# Altium schematic symbol library components.SchLib: 244 symbols (part 3 of 3)
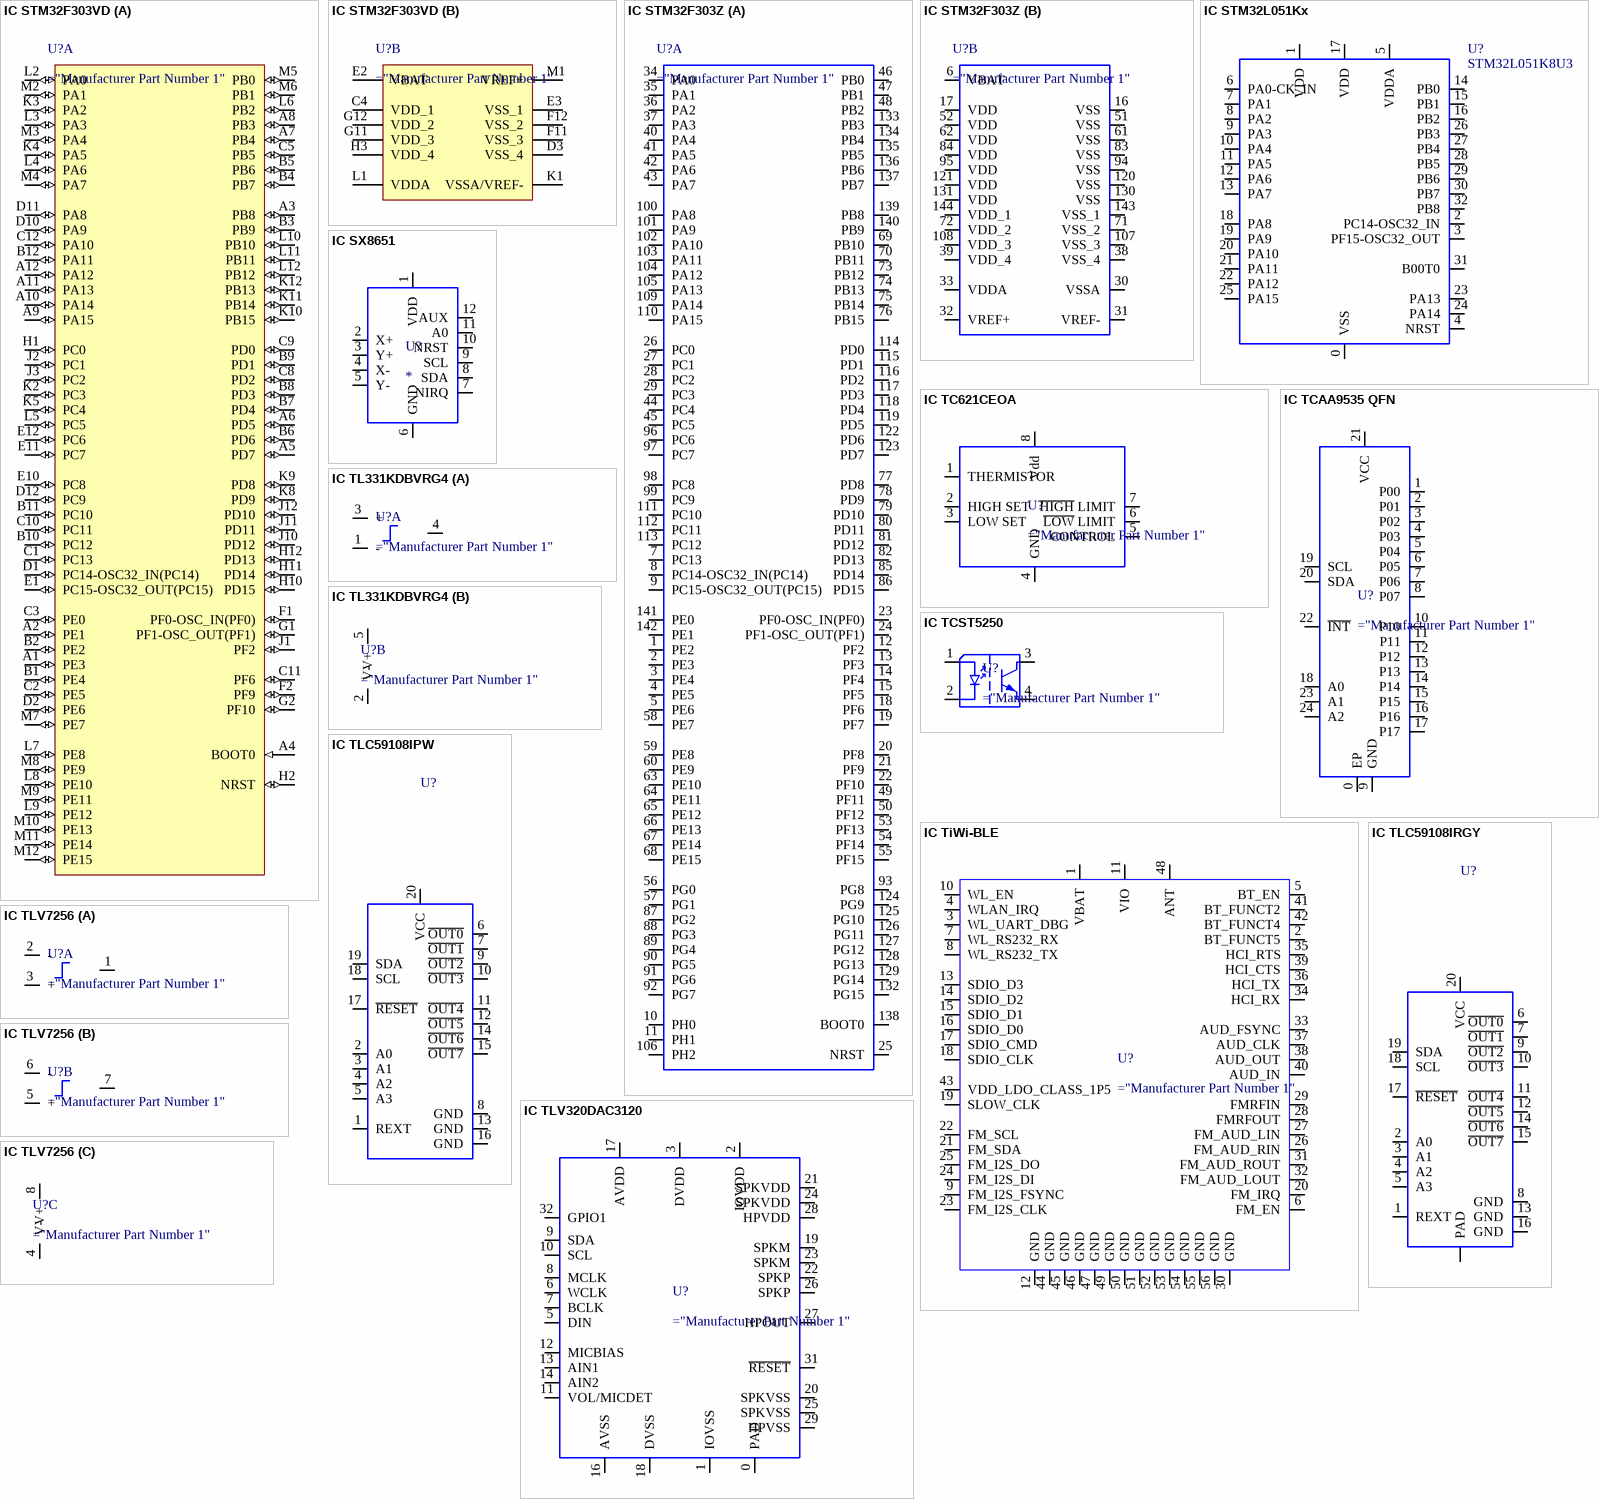
[diagram p27: symbols IC STM32F303VD to IC TLV7256]

## IC STM32F303VD
designator U?
STM32F303VD Microcontroller UFBGA100
part A pins: A1 PE3 (io) "PE3/TRACED0,TIM3_CH2,TSC_G7_IO2,EVENTOUT", A2 PE1 (io) "PE1/USART1_RX,TIM17_CH1,EVENTOUT", A3 PB8 (io) "PB8/I2C1_SCL,CAN_RX,TIM16_CH1,TIM4_CH3,TIM8_CH2,TIM1_BKIN,TSC_SYNC,COMP1_OUT,EVENTOUT", A4 BOOT0 (in) "Boot memory selection", A5 PD7 (io) "PD7/USART2_CK,TIM2_CH3,EVENTOUT", A6 PD5 (io) "PD5/USART2_TX,EVENTOUT", A7 PB4 (io) "PB4/SPI3_MISO,I2S3ext_SD,SPI1_MISO,USART2_RX,TIM3_CH1,TIM16_CH1,TIM17_BKIN,TIM8_CH2N,TSC_G5_IO2,NJTRST,EVENTOUT", A8 PB3 (io) "PB3/SPI3_SCK,I2S3_CK,SPI1_SCK,USART2_TX,TIM2_CH2,TIM3_ETR,TIM4_ETR,TIM8_CH1N,TSC_G5_IO1,JTDO-TRACESWO,EVENTOUT", A9 PA15 (io) "PA15/I2C1_SCL,SPI1_NSS,SPI3_NSS,I2S3_WS,JTDI,USART2_RX,TIM1_BKIN,TIM2_CH1_ETR,TIM8_CH1,EVENTOUT", A10 PA14 (io) "PA14/I2C1_SDA,USART2_TX,TIM8_CH2,TIM1_BKIN,TSC_G4_IO4,SWCLK-JTCK,EVENTOUT", A11 PA13 (io) "PA13/USART3_CTS,TIM4_CH3,TIM16_CH1N,TSC_G4_IO3,IR_OUT,SWDIO-JTMS,EVENTOUT", A12 PA12 (io) "PA12/USART1_RTS,USB_DP,CAN_TX,TIM1_CH2N,TIM1_ETR,TIM4_CH2,TIM16_CH1,COMP2_OUT,EVENTOUT", B1 PE4 (io) "PE4/TRACED1,TIM3_CH3,TSC_G7_IO3,EVENTOUT", B2 PE2 (io) "PE2/TRACECK,TIM3_CH1,TSC_G7_IO1,EVENTOUT", B3 PB9 (io) "PB9/I2C1_SDA,CAN_TX,TIM17_CH1,TIM4_CH4,TIM8_CH3,IR_OUT,COMP2_OUT,EVENTOUT", B4 PB7 (io) "PB7/I2C1_SDA,USART1_RX,TIM3_CH4,TIM4_CH2,TIM17_CH1N,TIM8_BKIN,TSC_G5_IO4,EVENTOUT", B5 PB6 (io) "PB6/I2C1_SCL,USART1_TX,TIM16_CH1N,TIM4_CH1,TIM8_CH1,TSC_G5_IO3,TIM8_ETR,TIM8_BKIN2,EVENTOUT", B6 PD6 (io) "PD6/USART2_RX,TIM2_CH4,EVENTOUT", B7 PD4 (io) "PD4/USART2_RTS,TIM2_CH2,EVENTOUT", B8 PD3 (io) "PD3/USART2_CTS,TIM2_CH1_ETR,EVENTOUT", B9 PD1 (io) "PD1/CAN_TX,TIM8_CH4,TIM8_BKIN2,EVENTOUT", B10 PC12 (io) "PC12/SPI3_MOSI,I2S3_SD,USART3_CK,UART5_TX,TIM8_CH3N,EVENTOUT", B11 PC10 (io) "PC10/SPI3_SCK,I2S3_CK,USART3_TX,UART4_TX,TIM8_CH1N,EVENTOUT", B12 PA11 (io) "PA11/USART1_CTS,USB_DM,CAN_RX,TIM1_CH1N,TIM1_CH4,TIM1_BKIN2,TIM4_CH1,COMP1_OUT,EVENTOUT", C1 PC13 (io) "PC13/TIM1_CH1N/WKUP2,RTC_TAMP1,RTC_TS,RTC_OUT", C2 PE5 (io) "PE5/TRACED2,TIM3_CH4,TSC_G7_IO4,EVENTOUT", C3 PE0 (io) "PE0/USART1_TX,TIM4_ETR,TIM16_CH1,EVENTOUT", C5 PB5 (io) "PB5/SPI3_MOSI,SPI1_MOSI,I2S3_SD,I2C1_SMBA,USART2_CK,TIM16_BKIN,TIM3_CH2,TIM8_CH3N,TIM17_CH1,EVENTOUT", C8 PD2 (io) "PD2/UART5_RX,TIM3_ETR,TIM8_BKIN,EVENTOUT", C9 PD0 (io) "PD0/CAN_RX,EVENTOUT", C10 PC11 (io) "PC11/SPI3_MISO,I2S3ext_SD,USART3_RX,UART4_RX,TIM8_CH2N,EVENTOUT", C11 PF6 (io) "PF6/I2C2_SCL,USART3_RTS,TIM4_CH4,EVENTOUT", C12 PA10 (io) "PA10/I2C2_SDA,USART1_RX,TIM1_CH3,TIM2_CH4,TIM8_BKIN,TIM17_BKIN,TSC_G4_IO2,COMP6_OUT,EVENTOUT", D1 PC14-OSC32_IN(PC14) (io) "PC14-OSC32_IN(PC14)/OSC32_IN", D2 PE6 (io) "PE6/TRACED3,EVENTOUT/WKUP3,RTC_TAMP3", D10 PA9 (io) "PA9/I2C2_SCL,I2S3_MCK,USART1_TX,TIM1_CH2,TIM2_CH3,TIM15_BKIN,TSC_G4_IO1,COMP5_OUT,EVENTOUT", D11 PA8 (io) "PA8/I2C2_SMBA,I2S2_MCK,USART1_CK,TIM1_CH1,TIM4_ETR,MCO,COMP3_OUT,EVENTOUT", D12 PC9 (io) "PC9/TIM8_CH4,TIM8_BKIN2,TIM3_CH4,I2S_CKIN,EVENTOUT", E1 PC15-OSC32_OUT(PC15) (io) "PC15-OSC32_OUT(PC15)/OSC32_OUT", E10 PC8 (io) "PC8/TIM8_CH3,TIM3_CH3,COMP3_OUT,EVENTOUT", E11 PC7 (io) "PC7/I2S3_MCK,TIM8_CH2,TIM3_CH2,COMP5_OUT,EVENTOUT", E12 PC6 (io) "PC6/I2S2_MCK,COMP6_OUT,TIM8_CH1,TIM3_CH1,EVENTOUT", F1 PF0-OSC_IN(PF0) (io) "PF0-OSC_IN(PF0)/TIM1_CH3N,I2C2_SDA/OSC_IN", F2 PF9 (io) "PF9/TIM15_CH1,SPI2_SCK,EVENTOUT", G1 PF1-OSC_OUT(PF1) (io) "PF1-OSC_OUT(PF1)/I2C2_SCL/OSC_OUT", G2 PF10 (io) "PF10/TIM15_CH2,SPI2_SCK,EVENTOUT", H1 PC0 (io) "PC0/EVENTOUT/ADC12_IN6,COMP7_INM", H2 NRST (io) "Device reset input / internal reset output (active low)", H10 PD15 (io) "PD15/SPI2_NSS,TIM4_CH4,TSC_G8_IO4,EVENTOUT/COMP3_INM", H11 PD14 (io) "PD14/TIM4_CH3,TSC_G8_IO3,EVENTOUT/COMP3_INP,ADC34_IN11,OPAMP2_VINP", H12 PD13 (io) "PD13/TIM4_CH2,TSC_G8_IO2,EVENTOUT/ADC34_IN10,COMP5_INM", J1 PF2 (io) "PF2/EVENTOUT/ADC12_IN10", J2 PC1 (io) "PC1/EVENTOUT/ADC12_IN7,COMP7_INP", J3 PC2 (io) "PC2/COMP7_OUT,EVENTOUT/ADC12_IN8", J10 PD12 (io) "PD12/USART3_RTS,TIM4_CH1,TSC_G8_IO1,EVENTOUT/ADC34_IN9,COMP5_INP", J11 PD11 (io) "PD11/USART3_CTS,EVENTOUT/ADC34_IN8,COMP6_INP,OPAMP4_VINP", J12 PD10 (io) "PD10/USART3_CK,EVENTOUT/ADC34_IN7,COMP6_INM", K2 PC3 (io) "PC3/TIM1_BKIN2,EVENTOUT/ADC12_IN9", K3 PA2 (io) "PA2/USART2_TX,TIM2_CH3,TIM15_CH1,TSC_G1_IO3,COMP2_OUT,EVENTOUT/ADC1_IN3,COMP2_INM,OPAMP1_VOUT", K4 PA5 (io) "PA5/SPI1_SCK,TIM2_CH1_ETR,TSC_G2_IO2,EVENTOUT/ADC2_IN2,DAC1_OUT2,OPAMP1_VINP,OPAMP2_VINM,OPAMP3_VINP,COMP1_INM,COMP2_INM,COMP3_INM,COMP4_INM,COMP5_INM,COMP6_INM,COMP7_INM", K5 PC4 (io) "PC4/USART1_TX,EVENTOUT/ADC2_IN5", K8 PD9 (io) "PD9/USART3_RX,EVENTOUT/ADC4_IN13", K9 PD8 (io) "PD8/USART3_TX,EVENTOUT/ADC4_IN12,OPAMP4_VINM", K10 PB15 (io) "PB15/SPI2_MOSI,I2S2_SD,TIM1_CH3N,RTC_REFIN,TIM15_CH1N,TIM15_CH2,EVENTOUT/ADC4_IN5,COMP6_INM", K11 PB14 (io) "PB14/SPI2_MISO,I2S2ext_SD,USART3_RTS,TIM1_CH2N,TIM15_CH1,TSC_G6_IO4,EVENTOUT/COMP3_INP,ADC4_IN4,OPAMP2_VINP", K12 PB13 (io) "PB13/SPI2_SCK,I2S2_CK,USART3_CTS,TIM1_CH1N,TSC_G6_IO3,EVENTOUT/ADC3_IN5,COMP5_INP,OPAMP4_VINP,OPAMP3_VINP", L2 PA0 (io) "PA0/USART2_CTS,TIM2_CH1_ETR,TIM8_BKIN,TIM8_ETR,TSC_G1_IO1,COMP1_OUT,EVENTOUT/ADC1_IN1,COMP1_INM,RTC_TAMP2,WKUP1,COMP7_INP", L3 PA3 (io) "PA3/USART2_RX,TIM2_CH4,TIM15_CH2,TSC_G1_IO4,EVENTOUT/ADC1_IN4,OPAMP1_VINP,COMP2_INP,OPAMP1_VINM", L4 PA6 (io) "PA6/SPI1_MISO,TIM3_CH1,TIM8_BKIN,TIM1_BKIN,TIM16_CH1,COMP1_OUT,TSC_G2_IO3,EVENTOUT/ADC2_IN3,OPAMP2_VOUT", L5 PC5 (io) "PC5/USART1_RX,TSC_G3_IO1,EVENTOUT/ADC2_IN11,OPAMP2_VINM,OPAMP1_VINM", L6 PB2 (io) "PB2/TSC_G3_IO4,EVENTOUT/ADC2_IN12,COMP4_INM,OPAMP3_VINM", L7 PE8 (io) "PE8/TIM1_CH1N,EVENTOUT/COMP4_INM,ADC34_IN6", L8 PE10 (io) "PE10/TIM1_CH2N,EVENTOUT/ADC3_IN14", L9 PE12 (io) "PE12/TIM1_CH3N,EVENTOUT/ADC3_IN16", L10 PB10 (io) "PB10/USART3_TX,TIM2_CH3,TSC_SYNC,EVENTOUT/COMP5_INM,OPAMP4_VINM,OPAMP3_VINM", L11 PB11 (io) "PB11/USART3_RX,TIM2_CH4,TSC_G6_IO1,EVENTOUT/COMP6_INP,OPAMP4_VINP", L12 PB12 (io) "PB12/SPI2_NSS,I2S2_WS,I2C2_SMBA,USART3_CK,TIM1_BKIN,TSC_G6_IO2,EVENTOUT/ADC4_IN3,COMP3_INM,OPAMP4_VOUT", M2 PA1 (io) "PA1/USART2_RTS,TIM2_CH2,TSC_G1_IO2,TIM15_CH1N,RTC_REFIN,EVENTOUT/ADC1_IN2,COMP1_INP,OPAMP1_VINP,OPAMP3_VINP", M3 PA4 (io) "PA4/SPI1_NSS,SPI3_NSS,I2S3_WS,USART2_CK,TSC_G2_IO1,TIM3_CH2,EVENTOUT/ADC2_IN1,DAC1_OUT1,OPAMP4_VINP,COMP1_INM,COMP2_INM,COMP3_INM,COMP4_INM,COMP5_INM,COMP6_INM,COMP7_INM", M4 PA7 (io) "PA7/SPI1_MOSI,TIM3_CH2,TIM17_CH1,TIM1_CH1N,TIM8_CH1N,TSC_G2_IO4,COMP2_OUT,EVENTOUT/ADC2_IN4,COMP2_INP,OPAMP2_VINP,OPAMP1_VINP", M5 PB0 (io) "PB0/TIM3_CH3,TIM1_CH2N,TIM8_CH2N,TSC_G3_IO2,EVENTOUT/ADC3_IN12,COMP4_INP,OPAMP3_VINP,OPAMP2_VINP", M6 PB1 (io) "PB1/TIM3_CH4,TIM1_CH3N,TIM8_CH3N,COMP4_OUT,TSC_G3_IO3,EVENTOUT/ADC3_IN1,OPAMP3_VOUT", M7 PE7 (io) "PE7/TIM1_ETR,EVENTOUT/ADC3_IN13,COMP4_INP", M8 PE9 (io) "PE9/TIM1_CH1,EVENTOUT/ADC3_IN2", M9 PE11 (io) "PE11/TIM1_CH2,EVENTOUT/ADC3_IN15", M10 PE13 (io) "PE13/TIM1_CH3,EVENTOUT/ADC3_IN3", M11 PE14 (io) "PE14/TIM1_CH4,TIM1_BKIN2,EVENTOUT/ADC4_IN1", M12 PE15 (io) "PE15/USART3_RX,TIM1_BKIN,EVENTOUT/ADC4_IN2"
part B pins: C4 VDD_1 (power) "Digital power supply", D3 VSS_4 (power) "Ground", E2 VBAT (power) "Backup power supply", E3 VSS_1 (power) "Ground", F11 VSS_3 (power) "Ground", F12 VSS_2 (power) "Digital ground", G11 VDD_3 (power) "Digital power supply", G12 VDD_2 (power) "Digital power supply", H3 VDD_4 (power) "Digital power supply", K1 VSSA/VREF- (power) "Analog ground/Negative reference voltage", L1 VDDA (power) "Analog power supply", M1 VREF+ (power) "Positive reference voltage"

## IC STM32F303Z
designator U?
MCU ARM Cortex-M4, ST STM32F303Z
part A pins: 1 PE2 "PE2/TRACECK,TIM3_CH1,TSC_G7_IO1,SPI4_SCK,TIM20_CH1,FMC_A23,EVENTOUT", 2 PE3 "PE3/TRACED0,TIM3_CH2,TSC_G7_IO2,SPI4_NSS,TIM20_CH2,FMC_A19,EVENTOUT", 3 PE4 "PE4/TRACED1,TIM3_CH3,TSC_G7_IO3,SPI4_NSS,TIM20_CH1N,FMC_A20,EVENTOUT", 4 PE5 "PE5/TRACED2,TIM3_CH4,TSC_G7_IO4,SPI4_MISO,TIM20_CH2N,FMC_A21,EVENTOUT", 5 PE6 "PE6/TRACED3,EVENTOUT/WKUP3,RTC_TAMP3,SPI4_MOSI,TIM20_CH3N,FMC_A22", 7 PC13 "PC13/TIM1_CH1N/WKUP2,RTC_TAMP1,RTC_TS,RTC_OUT", 8 PC14-OSC32_IN(PC14) "PC14-OSC32_IN(PC14)/OSC32_IN", 9 PC15-OSC32_OUT(PC15) "PC15-OSC32_OUT(PC15)/OSC32_OUT", 10 PH0 "PH0/EVENTOUT,TIM20_CH1,FMC_A0", 11 PH1 "PH1/EVENTOUT,TIM20_CH2,FMC_A1", 12 PF2 "PF2/EVENTOUT/ADC12_IN10,TIM20_CH3,FMC_A2", 13 PF3 "PF3/EVENTOUT/TIM20_CH4,FMC_A3", 14 PF4 "PF4/COMP1_OUT,TIM20_CH1N,FMC_A4,EVENTOUT/ADC1_IN5", 15 PF5 "PF4/TIM20_CH2N,FMC_A5,EVENTOUT", 18 PF6 "PF6/I2C2_SCL,USART3_RTS,TIM4_CH4,FMC_NIORD,EVENTOUT", 19 PF7 "PF7/TIM20_BKIN,FMC_NREG,EVENTOUT", 20 PF8 "PF8/TIM20_BKIN2,FMC_NIOWR,EVENTOUT", 21 PF9 "PF9/TIM15_CH1,TIM20_BKIN,SPI2_SCK,FMC_CD,EVENTOUT", 22 PF10 "PF10/TIM15_CH2,TIM20_BKIN2,SPI2_SCK,FMC_INTR,EVENTOUT", 23 PF0-OSC_IN(PF0) "PF0-OSC_IN(PF0)/TIM1_CH3N,I2C2_SDA,SPI2_NSS/I2S2_WS/OSC_IN", 24 PF1-OSC_OUT(PF1) "PF1-OSC_OUT(PF1)/I2C2_SCL,SPI2_SCK/I2S2_CK/OSC_OUT", 25 NRST "Device reset input / internal reset output (active low)", 26 PC0 "PC0/TIM1_CH1,EVENTOUT/ADC12_IN6,COMP7_INM", 27 PC1 "PC1/TIM1_CH2,EVENTOUT/ADC12_IN7,COMP7_INP", 28 PC2 "PC2/TIM1_CH3,COMP7_OUT,EVENTOUT/ADC12_IN8", 29 PC3 "PC3/TIM1_CH4,TIM1_BKIN2,EVENTOUT/ADC12_IN9", 34 PA0 "PA0/USART2_CTS,TIM2_CH1_ETR,TIM8_BKIN,TIM8_ETR,TSC_G1_IO1,COMP1_OUT,EVENTOUT/ADC1_IN1,COMP1_INM,RTC_TAMP2,WKUP1", 35 PA1 "PA1/USART2_RTS,TIM2_CH2,TSC_G1_IO2,TIM15_CH1N,RTC_REFIN,EVENTOUT/ADC1_IN2,COMP1_INP,OPAMP1_VINP,OPAMP3_VINP", 36 PA2 "PA2/USART2_TX,TIM2_CH3,TIM15_CH1,TSC_G1_IO3,COMP2_OUT,EVENTOUT/ADC1_IN3,COMP2_INM,OPAMP1_VOUT", 37 PA3 "PA3/USART2_RX,TIM2_CH4,TIM15_CH2,TSC_G1_IO4,EVENTOUT/ADC1_IN4,OPAMP1_VINP,OPAMP1_VINM", 40 PA4 "PA4/SPI1_NSS,SPI3_NSS,I2S3_WS,USART2_CK,TSC_G2_IO1,TIM3_CH2,EVENTOUT/ADC2_IN1,DAC1_OUT1,OPAMP4_VINP,COMP1_INM,COMP2_INM,COMP3_INM,COMP4_INM,COMP5_INM,COMP6_INM,COMP7_INM", 41 PA5 "PA5/SPI1_SCK,TIM2_CH1_ETR,TSC_G2_IO2,EVENTOUT/ADC2_IN2,DAC1_OUT2,OPAMP1_VINP,OPAMP2_VINM,OPAMP3_VINP,COMP1_INM,COMP2_INM,COMP3_INM,COMP4_INM,COMP5_INM,COMP6_INM,COMP7_INM", 42 PA6 "PA6/SPI1_MISO,TIM3_CH1,TIM8_BKIN,TIM1_BKIN,TIM16_CH1,COMP1_OUT,TSC_G2_IO3,EVENTOUT/ADC2_IN3,OPAMP2_VOUT", 43 PA7 "PA7/SPI1_MOSI,TIM3_CH2,TIM17_CH1,TIM1_CH1N,TIM8_CH1N,TSC_G2_IO4,EVENTOUT/ADC2_IN4,COMP2_INP,OPAMP2_VINP,OPAMP1_VINP", 44 PC4 "PC4/TIM1_ETR,USART1_TX,EVENTOUT/ADC2_IN5", 45 PC5 "PC5/TIM15_BKIN,USART1_RX,TSC_G3_IO1,EVENTOUT/ADC2_IN11,OPAMP2_VINM,OPAMP1_VINM", 46 PB0 "PB0/TIM3_CH3,TIM1_CH2N,TIM8_CH2N,TSC_G3_IO2,EVENTOUT/ADC3_IN12,COMP4_INP,OPAMP3_VINP,OPAMP2_VINP", 47 PB1 "PB1/TIM3_CH4,TIM1_CH3N,TIM8_CH3N,COMP4_OUT,TSC_G3_IO3,EVENTOUT/ADC3_IN1,OPAMP3_VOUT", 48 PB2 "PB2/TSC_G3_IO4,EVENTOUT/ADC2_IN12,COMP4_INM,OPAMP3_VINM", 49 PF11 "PF11/TIM20_ETR,EVENTOUT", 50 PF12 "PF12/TIM20_ETR,FMC_A6,EVENTOUT", 53 PF13 "PF13/TIM20_CH2,FMC_A7,EVENTOUT", 54 PF14 "PF14/TIM20_CH3,FMC_A8,EVENTOUT", 55 PF15 "PF15/TIM20_CH4,FMC_A9,EVENTOUT", 56 PG0 "Pg0/TIM20_CH1N,FMC_A10,EVENTOUT", 57 PG1 "PG1/TIM20_CH2N,FMC_A11,EVENTOUT", 58 PE7 "PE7/TIM1_ETR,FMC_D4,EVENTOUT/ADC3_IN13", 59 PE8 "PE8/TIM1_CH1N,FMC_D5,EVENTOUT/COMP4_INM,ADC34_IN6", 60 PE9 "PE9/TIM1_CH1,FMC_D6,EVENTOUT/ADC3_IN2", 63 PE10 "PE10/TIM1_CH2N,FMC_D7,EVENTOUT/ADC3_IN14", 64 PE11 "PE11/TIM1_CH2,SPI4_NSS,FMC_D8,EVENTOUT/ADC3_IN15", 65 PE12 "PE12/TIM1_CH3N,SPI4_SCK,FMC_D9,EVENTOUT/ADC3_IN16", 66 PE13 "PE13/TIM1_CH3,SPI4_MISO,FMC_D10,EVENTOUT/ADC3_IN3", 67 PE14 "PE14/TIM1_CH4,TIM1_BKIN2,SPI4_MOSI,FMC_D11,EVENTOUT/ADC4_IN1", 68 PE15 "PE15/USART3_RX,TIM1_BKIN,FMC_D12,EVENTOUT/ADC4_IN2", 69 PB10 "PB10/USART3_TX,TIM2_CH3,TSC_SYNC,EVENTOUT/COMP5_INM,OPAMP4_VINM,OPAMP3_VINM", 70 PB11 "PB11/USART3_RX,TIM2_CH4,TSC_G6_IO1,EVENTOUT/ADC12_IN14,COMP6_INP,OPAMP4_VINP", 73 PB12 "PB12/SPI2_NSS,I2S2_WS,I2C2_SMBAL,USART3_CK,TIM1_BKIN,TSC_G6_IO2,EVENTOUT/ADC4_IN3,COMP3_INM,OPAMP4_VOUT", 74 PB13 "PB13/SPI2_SCK,I2S2_CK,USART3_CTS,TIM1_CH1N,TSC_G6_IO3,EVENTOUT/ADC3_IN5,COMP5_INP,OPAMP4_VINP,OPAMP3_VINP", 75 PB14 "PB14/SPI2_MISO,I2S2ext_SD,USART3_RTS,TIM1_CH2N,TIM15_CH1,TSC_G6_IO4,EVENTOUT/COMP3_INP,ADC4_IN4,OPAMP2_VINP", 76 PB15 "PB15/SPI2_MOSI,I2S2_SD,TIM1_CH3N,RTC_REFIN,TIM15_CH1N,TIM15_CH2,EVENTOUT/ADC4_IN5,COMP6_INM", 77 PD8 "PD8/USART3_TX,FMC_D13,EVENTOUT/ADC4_IN12,OPAMP4_VINM", 78 PD9 "PD9/USART3_RX,FMC_D14,EVENTOUT/ADC4_IN13", 79 PD10 "PD10/USART3_CK,FMC_D15,EVENTOUT/ADC34_IN7,COMP6_INM", 80 PD11 "PD11/USART3_CTS,FMC_A16,EVENTOUT/ADC34_IN8,OPAMP4_VINP", 81 PD12 "PD12/USART3_RTS,TIM4_CH1,TSC_G8_IO1,FMC_A17,EVENTOUT/ADC34_IN9", 82 PD13 "PD13/TIM4_CH2,TSC_G8_IO2,FMC_A18,EVENTOUT/ADC34_IN10,COMP5_INM", 85 PD14 "PD14/TIM4_CH3,TSC_G8_IO3,FMC_D0.EVENTOUT/ADC34_IN11,OPAMP2_VINP", 86 PD15 "PD15/SPI2_NSS,TIM4_CH4,TSC_G8_IO4,FMC_D1,EVENTOUT/COMP3_INM", 87 PG2 "PG2/TIM20_CH3N,FMC_A12,EVENTOUT", 88 PG3 "PG3/TIM20_BKIN,FMC_A13,EVENTOUT", 89 PG4 "PG4/TIM20_BKIN2,FMC_A14,EVENTOUT", 90 PG5 "PG5/TIM20_ETR,FMC_A15,EVENTOUT", 91 PG6 "PG6/FMC_INT2,EVENTOUT", 92 PG7 "PG7/FMC_INT3,EVENTOUT", 93 PG8 "PG8/EVENTOUT", 96 PC6 "PC6/I2S2_MCK,COMP6_OUT,TIM8_CH1,TIM3_CH1,EVENTOUT", 97 PC7 "PC7/I2S3_MCK,TIM8_CH2,TIM3_CH2,COMP5_OUT,EVENTOUT", 98 PC8 "PC8/TIM8_CH3,TIM3_CH3,COMP3_OUT,EVENTOUT", 99 PC9 "PC9/TIM8_CH4,TIM8_BKIN2,TIM3_CH4,I2C2_SMBAL,I2S_CKIN,EVENTOUT", 100 PA8 "PA8/I2C2_SMBAL,I2C3_SCL,I2S2_MCK,USART1_CK,TIM1_CH1,TIM4_ETR,MCO,COMP3_OUT,EVENTOUT", 101 PA9 "PA9/I2C3_SMBAL,I2C2_SCL,I2S3_MCK,USART1_TX,TIM1_CH2,TIM2_CH3,TIM15_BKIN,TSC_G4_IO1,COMP5_OUT,EVENTOUT", 102 PA10 "PA10/SPI2_MISO,I2S2ext_SD,I2C2_SDA,USART1_RX,TIM1_CH3,TIM2_CH4,TIM8_BKIN,TIM17_BKIN,TSC_G4_IO2,COMP6_OUT,EVENTOUT", 103 PA11 "PA11/SPI2_MOSI/I2S2_SD,USART1_CTS,USB_DM,CAN_RX,TIM1_CH1N,TIM1_CH4,TIM1_BKIN2,TIM4_CH1,COMP1_OUT,EVENTOUT", 104 PA12 "PA12/USART1_RTS,USB_DP,CAN_TX,TIM1_CH2N,TIM1_ETR,TIM4_CH2,TIM16_CH1,COMP2_OUT,I2SCKIN,EVENTOUT", 105 PA13 "PA13/USART3_CTS,TIM4_CH3,TIM16_CH1N,TSC_G4_IO3,IR_OUT,SWDIO-JTMS,EVENTOUT", 106 PH2 "PH2/EVENTOUT", 109 PA14 "PA14/I2C1_SDA,USART2_TX,TIM8_CH2,TIM1_BKIN,TSC_G4_IO4,SWCLK-JTCK,EVENTOUT", 110 PA15 "PA15/I2C1_SCL,SPI1_NSS,SPI3_NSS,I2S3_WS,JTDI,USART2_RX,TIM1_BKIN,TIM2_CH1_ETR,TIM8_CH1,TSC_SYNC,EVENTOUT", 111 PC10 "PC10/SPI3_SCK,I2S3_CK,USART3_TX,UART4_TX,TIM8_CH1N,EVENTOUT", 112 PC11 "PC11/SPI3_MISO,I2S3ext_SD,USART3_RX,UART4_RX,TIM8_CH2N,EVENTOUT", 113 PC12 "PC12/SPI3_MOSI,I2S3_SD,USART3_CK,UART5_TX,TIM8_CH3N,EVENTOUT", 114 PD0 "PD0/CAN_RX,FMC_D2,EVENTOUT", 115 PD1 "PD1/CAN_TX,TIM8_CH4,TIM8_BKIN2,FMC_D3,EVENTOUT", 116 PD2 "PD2/UART5_RX,TIM3_ETR,TIM8_BKIN,EVENTOUT", 117 PD3 "PD3/USART2_CTS,TIM2_CH1_ETR,FMC_CLK,EVENTOUT", 118 PD4 "PD4/USART2_RTS,TIM2_CH2,FMC_NOE,EVENTOUT", 119 PD5 "PD5/USART2_TX,FMC_NWE,EVENTOUT", 122 PD6 "PD6/USART2_RX,TIM2_CH4,FMC_NWAIT,EVENTOUT", 123 PD7 "PD7/USART2_CK,TIM2_CH3,FMC_NE1_NCE2,EVENTOUT", 124 PG9 "PG9/FMC_NE2_NCE3,EVENTOUT", 125 PG10 "PG10/FMC_NE3_NCE4,EVENTOUT", 126 PG11 "PG11/FMC_NCE4_2,EVENTOUT", 127 PG12 "PG12/FMC_NE4,EVENTOUT", 128 PG13 "PG13/FMC_A24,EVENTOUT", 129 PG14 "PG14/FMC_A25,EVENTOUT", 132 PG15 "PG15/EVENTOUT", 133 PB3 "PB3/SPI3_SCK,I2S3_CK,SPI1_SCK,USART2_TX,TIM2_CH2,TIM3_ETR,TIM4_ETR,TIM8_CH1N,TSC_G5_IO1,JTDO-TRACESWO,EVENTOUT", 134 PB4 "PB4/SPI3_MISO,I2S3ext_SD,SPI1_MISO,USART2_RX,TIM3_CH1,TIM16_CH1,TIM17_BKIN,TIM8_CH2N,TSC_G5_IO2,NJTRST,EVENTOUT", 135 PB5 "PB5/SPI3_MOSI,SPI1_MOSI,I2S3_SD,I2C1_SMBA,USART2_CK,TIM16_BKIN,TIM3_CH2,TIM8_CH3N,TIM17_CH1,I2C3_SDA,EVENTOUT", 136 PB6 "PB6/I2C1_SCL,USART1_TX,TIM16_CH1N,TIM4_CH1,TIM8_CH1,TSC_G5_IO3,TIM8_ETR,TIM8_BKIN2,EVENTOUT", 137 PB7 "PB7/I2C1_SDA,USART1_RX,TIM3_CH4,TIM4_CH2,TIM17_CH1N,TIM8_BKIN,TSC_G5_IO4,FMC_NADV,EVENTOUT", 138 BOOT0 "Boot memory selection", 139 PB8 "PB8/I2C1_SCL,CAN_RX,TIM16_CH1,TIM4_CH3,TIM8_CH2,TIM1_BKIN,TSC_SYNC,COMP1_OUT,USART3_RX,EVENTOUT", 140 PB9 "PB9/I2C1_SDA,CAN_TX,TIM17_CH1,TIM4_CH4,TIM8_CH3,IR_OUT,COMP2_OUT,USART3_TX,EVENTOUT", 141 PE0 "PE0/USART1_TX,TIM4_ETR,TIM16_CH1,TIM20_ETR,FMC_NBL0,EVENTOUT", 142 PE1 "PE1/USART1_RX,TIM17_CH1,TIM20_CH4,FMC_NBL1,EVENTOUT"
part B pins: 6 VBAT "Backup power supply", 16 VSS "Ground", 17 VDD "Digital power supply", 30 VSSA "Analog ground", 31 VREF- "Negative reference voltage", 32 VREF+ "Positive reference voltage", 33 VDDA "Analog power supply", 38 VSS_4 "Digital ground", 39 VDD_4 "Digital power supply", 51 VSS "Digital ground", 52 VDD "Digital power supply", 61 VSS "Ground", 62 VDD "Digital power supply", 71 VSS_2 "Ground", 72 VDD_2 "Digital power supply", 83 VSS "Ground", 84 VDD "Digital power supply", 94 VSS "Ground", 95 VDD "Digital power supply", 107 VSS_3 "Ground", 108 VDD_3 "Digital power supply", 120 VSS "Ground", 121 VDD "Digital power supply", 130 VSS "Ground", 131 VDD "Digital power supply", 143 VSS_1 "Ground", 144 VDD_1 "Digital power supply"

## IC STM32L051Kx
designator U?, comment STM32L051K8U3
STM Cortex M0 MCU 48MHz 32kB Flash, 4kB SRAM, 32 Pin; MakerBot Part Number: MB400-0204; Manufacturer 1: ST MICROELECTRONICS; Component Subtype: 32-Bit; Operating Voltage: 1.65V to 3.6V; Manufacturer Part Number 1: STM32L051K8U3; Component Type: MCU; RoHS Compliant: YES; Package: QFN-32; Features: 12-bit ADC, 16-bit timer, RTC, I2C, SPI, UART; Supplier 1: Digikey; Supplier Part Number 1: STM32L051K8U3-ND; Alt Supplier 1: Mouser; Alt Supplier Part Number 1: 511-STM32L051K8U3
footprint QFP-32
pins: 0 VSS, 1 VDD, 2 PC14-OSC32_IN, 3 PF15-OSC32_OUT, 4 NRST, 5 VDDA, 6 PA0-CK_IN, 7 PA1, 8 PA2, 9 PA3, 10 PA4, 11 PA5, 12 PA6, 13 PA7, 14 PB0, 15 PB1, 16 PB2, 17 VDD, 18 PA8, 19 PA9, 20 PA10, 21 PA11, 22 PA12, 23 PA13, 24 PA14, 25 PA15, 26 PB3, 27 PB4, 28 PB5, 29 PB6, 30 PB7, 31 B00T0, 32 PB8

## IC SX8651
designator U?
Resistive touch screen controller, Samech SX8651
pins: 1 VDD, 2 X+, 3 Y+, 4 X-, 5 Y-, 6 GND, 7 NIRQ, 8 SDA, 9 SCL, 10 NRST, 11 A0, 12 AUX

## IC TC621CEOA
designator U?
Temperature Sensor, Microchip TC621CEOA
pins: 1 THERMISTOR, 2 HIGH SET, 3 LOW SET, 4 GND, 5 CONTROL, 6 ~{LOW} LIMIT, 7 ~{HIGH} LIMIT, 8 Vdd

## IC TCAA9535 QFN
designator U?
I2C 16-bit IO Expander, TI TCAA9535 QFN
pins: 0 EP "Exposed thermal pad", 1 P00 "P-port input/output. Push-pull design structure. At power-on, P00 is configured as an input.", 2 P01 "P-port input/output. Push-pull design structure. At power-on, P01 is configured as an input.", 3 P02 "P-port input/output. Push-pull design structure. At power-on, P02 is configured as an input.", 4 P03 "P-port input/output. Push-pull design structure. At power-on, P03 is configured as an input.", 5 P04 "P-port input/output. Push-pull design structure. At power-on, P04 is configured as an input.", 6 P05 "P-port input/output. Push-pull design structure. At power-on, P05is configured as an input.", 7 P06 "P-port input/output. Push-pull design structure. At power-on, P06 is configured as an input.", 8 P07 "P-port input/output. Push-pull design structure. At power-on, P07 is configured as an input.", 9 GND "Ground", 10 P10 "P-port input/output. Push-pull design structure. At power-on, P10 is configured as an input.", 11 P11 "P-port input/output. Push-pull design structure. At power-on, P11 is configured as an input.", 12 P12 "P-port input/output. Push-pull design structure. At power-on, P12 is configured as an input.", 13 P13 "P-port input/output. Push-pull design structure. At power-on, P13 is configured as an input.", 14 P14 "P-port input/output. Push-pull design structure. At power-on, P14 is configured as an input.", 15 P15 "P-port input/output. Push-pull design structure. At power-on, P15 is configured as an input.", 16 P16 "P-port input/output. Push-pull design structure. At power-on, P16 is configured as an input.", 17 P17 "P-port input/output. Push-pull design structure. At power-on, P17 is configured as an input.", 18 A0 "Address input. Connect directly to VCC or ground.", 19 SCL "Serial clock bus. Connect to VCC through a pullup resistor.", 20 SDA "Serial data bus. Connect to VCC through a pullup resistor.", 21 VCC "Supply voltage", 22 ~{INT} "Interrupt output. Connect to VCC through a pullup resistor.", 23 A1 "Address input. Connect directly to VCC or ground.", 24 A2 "Address input. Connect directly to VCC or ground."
1 alternate drawing of the same symbol

## IC TCST5250
designator U?
Photointerrupter, Right-angle, Vishay TCST5250
pins: 1 Anode, 2 Cathode, 3 Collector, 4 Emitter

## IC TiWi-BLE
designator U?
LSR TiWi-BLE Wireless Module
pins: 1 VBAT, 2 BT_FUNCT5, 3 WL_UART_DBG, 4 WLAN_IRQ, 5 BT_EN, 6 FM_EN, 7 WL_RS232_RX, 8 WL_RS232_TX, 9 FM_I2S_FSYNC, 10 WL_EN, 11 VIO, 12 GND, 13 SDIO_D3, 14 SDIO_D2, 15 SDIO_D1, 16 SDIO_D0, 17 SDIO_CMD, 18 SDIO_CLK, 19 SLOW_CLK, 20 FM_IRQ, 21 FM_SDA, 22 FM_SCL, 23 FM_I2S_CLK, 24 FM_I2S_DI, 25 FM_I2S_DO, 26 FM_AUD_RIN, 27 FM_AUD_LIN, 28 FMRFOUT, 29 FMRFIN, 30 GND, 31 FM_AUD_ROUT, 32 FM_AUD_LOUT, 33 AUD_FSYNC, 34 HCI_RX, 35 HCI_RTS, 36 HCI_TX, 37 AUD_CLK, 38 AUD_OUT, 39 HCI_CTS, 40 AUD_IN, 41 BT_FUNCT2, 42 BT_FUNCT4, 43 VDD_LDO_CLASS_1P5, 44 GND, 45 GND, 46 GND, 47 GND, 48 ANT, 49 GND, 50 GND, 51 GND, 52 GND, 53 GND, 54 GND, 55 GND, 56 GND

## IC TL331KDBVRG4
designator U?
Single Comparator, TI TL331
part A pins: 1 -, 3 +, 4 OUT
part B pins: 2 V-, 5 V+

## IC TLC59108IPW
designator U?
LED Driver, TSSOP, TI TLC59108IPW
pins: 1 REXT, 2 A0, 3 A1, 4 A2, 5 A3, 6 ~{OUT0}, 7 ~{OUT1}, 8 GND, 9 ~{OUT2}, 10 ~{OUT3}, 11 ~{OUT4}, 12 ~{OUT5}, 13 GND, 14 ~{OUT6}, 15 ~{OUT7}, 16 GND, 17 ~{RESET}, 18 SCL, 19 SDA, 20 VCC

## IC TLC59108IRGY
designator U?
LED Driver, QFN, TI TLC59108IRGY
pins: 0 PAD, 1 REXT, 2 A0, 3 A1, 4 A2, 5 A3, 6 ~{OUT0}, 7 ~{OUT1}, 8 GND, 9 ~{OUT2}, 10 ~{OUT3}, 11 ~{OUT4}, 12 ~{OUT5}, 13 GND, 14 ~{OUT6}, 15 ~{OUT7}, 16 GND, 17 ~{RESET}, 18 SCL, 19 SDA, 20 VCC

## IC TLV320DAC3120
designator U?
Mono audio DAC, miniDSP, mono Class-D speaker amp, TI TLV320DAC3120
pins: 0 PAD, 1 IOVSS, 2 IOVDD, 3 DVDD, 4 NC hidden, 5 DIN, 6 WCLK, 7 BCLK, 8 MCLK, 9 SDA, 10 SCL, 11 VOL/MICDET, 12 MICBIAS, 13 AIN1, 14 AIN2, 15 NC hidden, 16 AVSS, 17 AVDD, 18 DVSS, 19 SPKM, 20 SPKVSS, 21 SPKVDD, 22 SPKP, 23 SPKM, 24 SPKVDD, 25 SPKVSS, 26 SPKP, 27 HPOUT, 28 HPVDD, 29 HPVSS, 30 NC hidden, 31 ~{RESET}, 32 GPIO1

## IC TLV7256
designator U?
Dual Comparators, TI TLV7256
part A pins: 1 Out1, 2 -, 3 +
part B pins: 5 +, 6 -, 7 Out2
part C pins: 4 V-, 8 V+

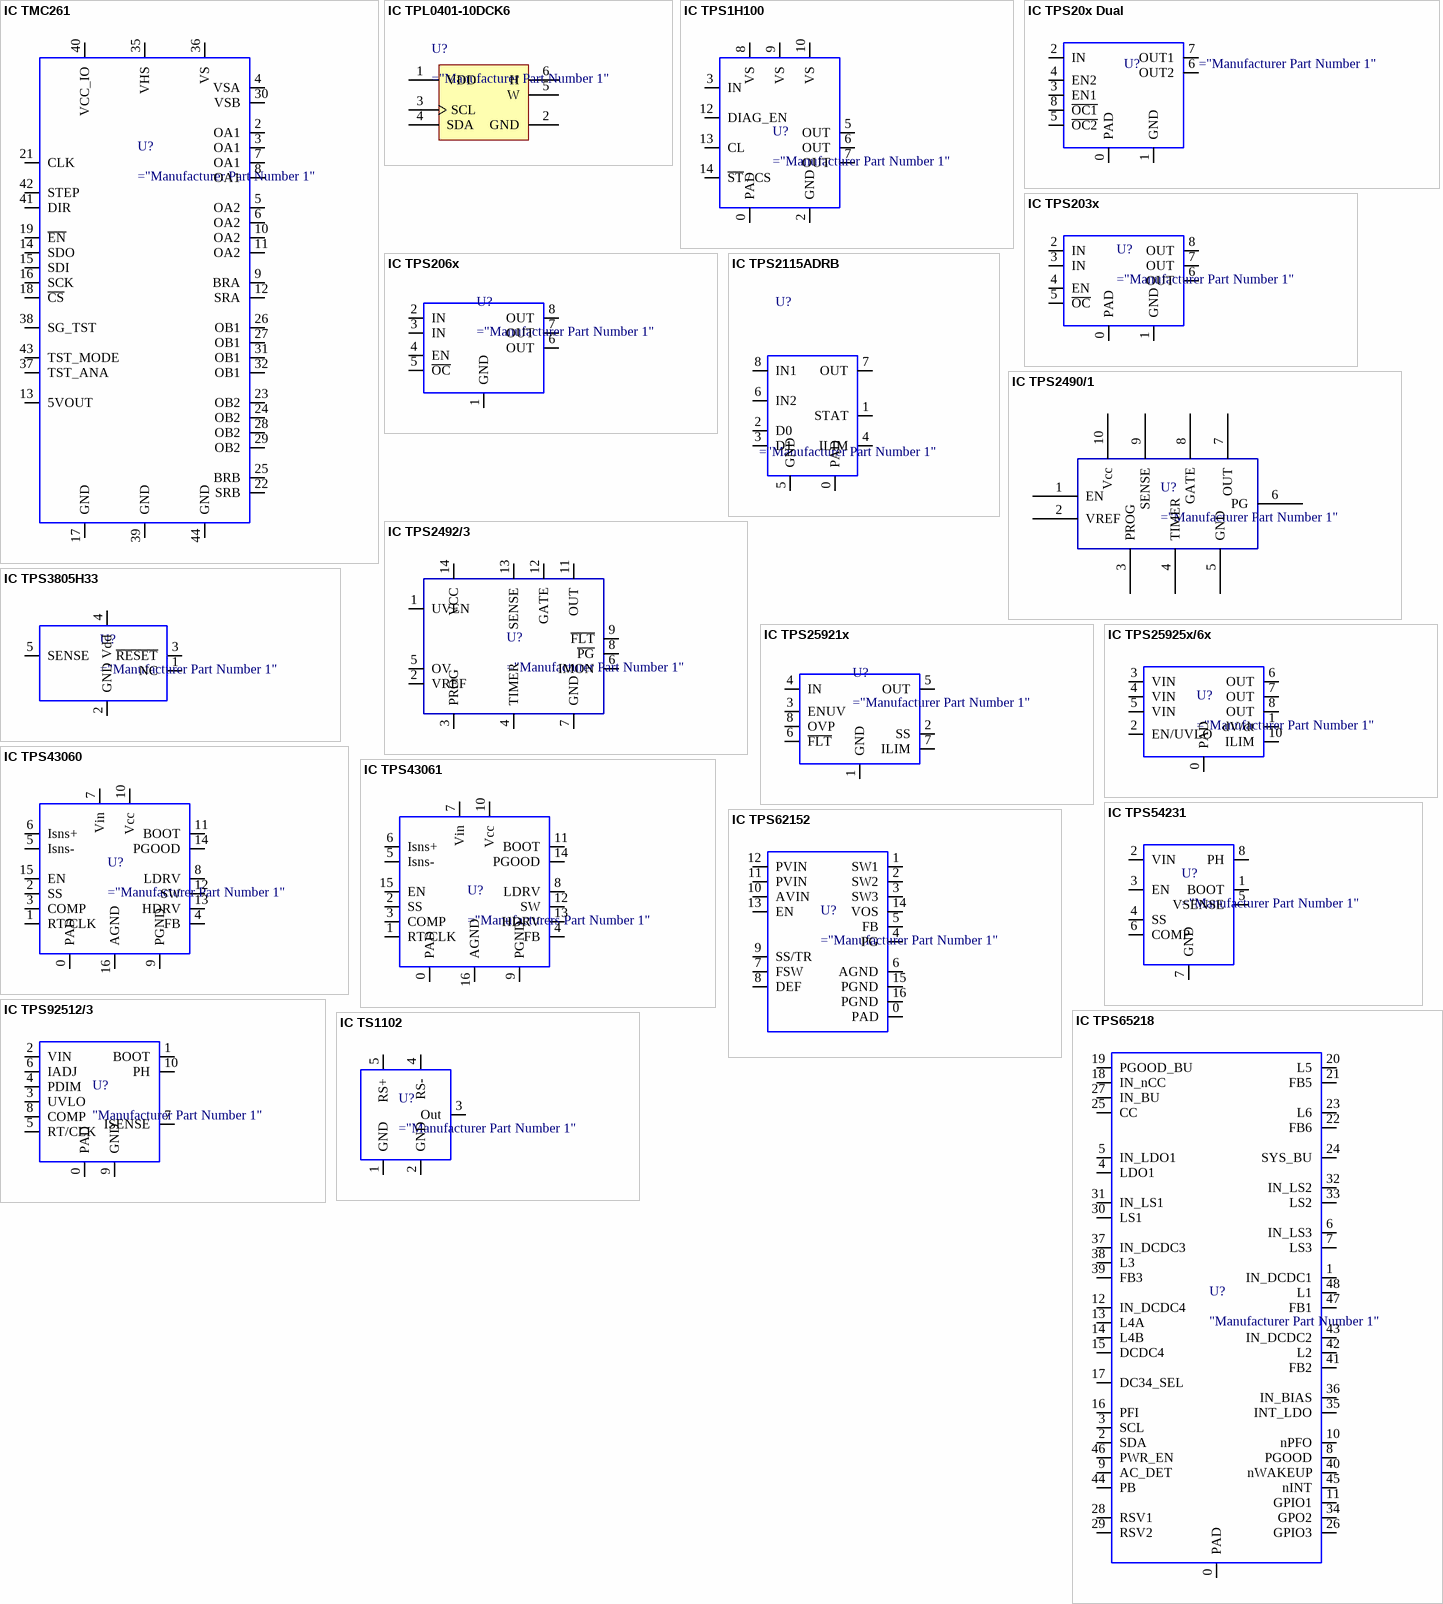
[diagram p22: symbols IC TMC261 to IC TS1102]

## IC TMC261
designator U?
Stepper Motor Driver, Trinamic TMC261
pins: 1 NC hidden, 2 OA1, 3 OA1, 4 VSA, 5 OA2, 6 OA2, 7 OA1, 8 OA1, 9 BRA, 10 OA2, 11 OA2, 12 SRA, 13 5VOUT, 14 SDO, 15 SDI, 16 SCK, 17 GND, 18 ~{CS}, 19 ~{EN}, 20 NC hidden, 21 CLK, 22 SRB, 23 OB2, 24 OB2, 25 BRB, 26 OB1, 27 OB1, 28 OB2, 29 OB2, 30 VSB, 31 OB1, 32 OB1, 33 NC hidden, 34 NC hidden, 35 VHS, 36 VS, 37 TST_ANA, 38 SG_TST, 39 GND, 40 VCC_IO, 41 DIR, 42 STEP, 43 TST_MODE, 44 GND

## IC TPL0401-10DCK6
designator U?
Digital Potentiometer, 10k, 128 Taps
pins: 1 VDD (power) "Positive Supply Voltage", 2 GND (power) "Ground", 3 SCL (power) "I2C Clock", 4 SDA (power) "I2C Data", 5 W "Wiper terminal", 6 H "High terminal"

## IC TPS1H100
designator U?
Single High-Side Power Switch, TI TPS1H100
pins: 0 PAD, 1 NC hidden, 2 GND, 3 IN, 4 NC hidden, 5 OUT, 6 OUT, 7 OUT, 8 VS, 9 VS, 10 VS, 11 NC hidden, 12 DIAG_EN, 13 CL, 14 ~{ST} / CS

## IC TPS20x Dual
designator U?
Dual Current-Limiting Power Distribution Switch, TI TPS203x
pins: 0 PAD, 1 GND, 2 IN, 3 EN1, 4 EN2, 5 ~{OC2}, 6 OUT2, 7 OUT1, 8 ~{OC1}

## IC TPS203x
designator U?
Single Current-Limited Power Distribution Switch, TI TPS203x
pins: 0 PAD, 1 GND, 2 IN, 3 IN, 4 EN, 5 ~{OC}, 6 OUT, 7 OUT, 8 OUT

## IC TPS206x
designator U?
Single Current-Limiting Power Switch, TI TPS2069DGN
pins: 1 GND, 2 IN, 3 IN, 4 EN, 5 ~{OC}, 6 OUT, 7 OUT, 8 OUT

## IC TPS2115ADRB
designator U?
Autoswitching Power Mux, TI TPS2115ARB
pins: 0 PAD, 1 STAT, 2 D0, 3 D1, 4 ILIM, 5 GND, 6 IN2, 7 OUT, 8 IN1

## IC TPS2490/1
designator U?
Positive High Voltage Hot-Swap Controller
pins: 1 EN, 2 VREF, 3 PROG, 4 TIMER, 5 GND, 6 PG, 7 OUT, 8 GATE, 9 SENSE, 10 Vcc

## IC TPS2492/3
designator U?
Positive High Voltage Hot-Swap Controller
pins: 1 UVEN, 2 VREF, 3 PROG, 4 TIMER, 5 OV, 6 IMON, 7 GND, 8 ~{PG}, 9 ~{FLT}, 10 NC hidden, 11 OUT, 12 GATE, 13 SENSE, 14 VCC

## IC TPS3805H33
designator U?
Voltage Detector, TI TPS3805H33
pins: 1 NC, 2 GND, 3 ~{RESET}, 4 Vdd, 5 SENSE

## IC TPS25921x
designator U?
eFuse Protection Switch, TI TPS25921x
pins: 1 GND, 2 SS, 3 ENUV, 4 IN, 5 OUT, 6 ~{FLT}, 7 ILIM, 8 OVP

## IC TPS25925x/6x
designator U?
eFuse Protection Switch, TI TPS25925x/6x
pins: 0 PAD, 1 dV/dt, 2 EN/UVLO, 3 VIN, 4 VIN, 5 VIN, 6 OUT, 7 OUT, 8 OUT, 9 NC hidden, 10 ILIM

## IC TPS43060
designator U?
Switching Controller, Synchronous Buck, TI TPS43060
pins: 0 PAD, 1 RT/CLK, 2 SS, 3 COMP, 4 FB, 5 Isns-, 6 Isns+, 7 Vin, 8 LDRV, 9 PGND, 10 Vcc, 11 BOOT, 12 SW, 13 HDRV, 14 PGOOD, 15 EN, 16 AGND

## IC TPS43061
designator U?
Switching Controller, Synchronous Buck, TI TPS43061
pins: 0 PAD, 1 RT/CLK, 2 SS, 3 COMP, 4 FB, 5 Isns-, 6 Isns+, 7 Vin, 8 LDRV, 9 PGND, 10 Vcc, 11 BOOT, 12 SW, 13 HDRV, 14 PGOOD, 15 EN, 16 AGND

## IC TPS54231
designator U?
Step-down Converter, TI TPS54231
pins: 1 BOOT "A 0.1 uF bootstrap capacitor is required between BOOT and PH. If the voltage on this capacitor falls below the minimum requirement, the high-side MOSFET is forced to switch off until the capacitor is refreshed.", 2 VIN "Input supply voltage, 3.5 V to 28 V.", 3 EN "Enable pin. Pull below 1.25 V to disable. Float to enable. Programming the input undervoltage lockout with two resistors is recommended.", 4 SS "Slow start pin. An external capacitor connected to this pin sets the output rise time.", 5 VSENSE "Inverting node of the gm error amplifier.", 6 COMP "Error amplifier output, and input to the PWM comparator. Connect frequency compensation components to this pin.", 7 GND "Ground.", 8 PH "The source of the internal high-side power MOSFET"

## IC TPS62152
designator U?
Step-down Converter, TI TPS62152
pins: 0 PAD, 1 SW1, 2 SW2, 3 SW3, 4 PG, 5 FB, 6 AGND, 7 FSW, 8 DEF, 9 SS/TR, 10 AVIN, 11 PVIN, 12 PVIN, 13 EN, 14 VOS, 15 PGND, 16 PGND

## IC TPS65218
designator U?, comment "Manufacturer Part Number 1"
Power Management IC, TI TPS65218
pins: 0 PAD, 1 IN_DCDC1, 2 SDA, 3 SCL, 4 LDO1, 5 IN_LDO1, 6 IN_LS3, 7 LS3, 8 PGOOD, 9 AC_DET, 10 nPFO, 11 GPIO1, 12 IN_DCDC4, 13 L4A, 14 L4B, 15 DCDC4, 16 PFI, 17 DC34_SEL, 18 IN_nCC, 19 PGOOD_BU, 20 L5, 21 FB5, 22 FB6, 23 L6, 24 SYS_BU, 25 CC, 26 GPIO3, 27 IN_BU, 28 NC hidden, 28 RSV1, 29 NC hidden, 29 RSV2, 30 LS1, 31 IN_LS1, 32 IN_LS2, 33 LS2, 34 GPO2, 35 INT_LDO, 36 IN_BIAS, 37 IN_DCDC3, 38 L3, 39 FB3, 40 nWAKEUP, 41 FB2, 42 L2, 43 IN_DCDC2, 44 PB, 45 nINT, 46 PWR_EN, 47 FB1, 48 L1

## IC TPS92512/3
designator U?, comment "Manufacturer Part Number 1"
Buck LED Driver, TI TPS92512/3
pins: 0 PAD, 1 BOOT, 2 VIN, 3 UVLO, 4 PDIM, 5 RT/CLK, 6 IADJ, 7 ISENSE, 8 COMP, 9 GND, 10 PH

## IC TS1102
designator U?
High Side Current Sense Amplifier, Silicon Labs TS1102
pins: 1 GND, 2 GND, 3 Out, 4 RS-, 5 RS+

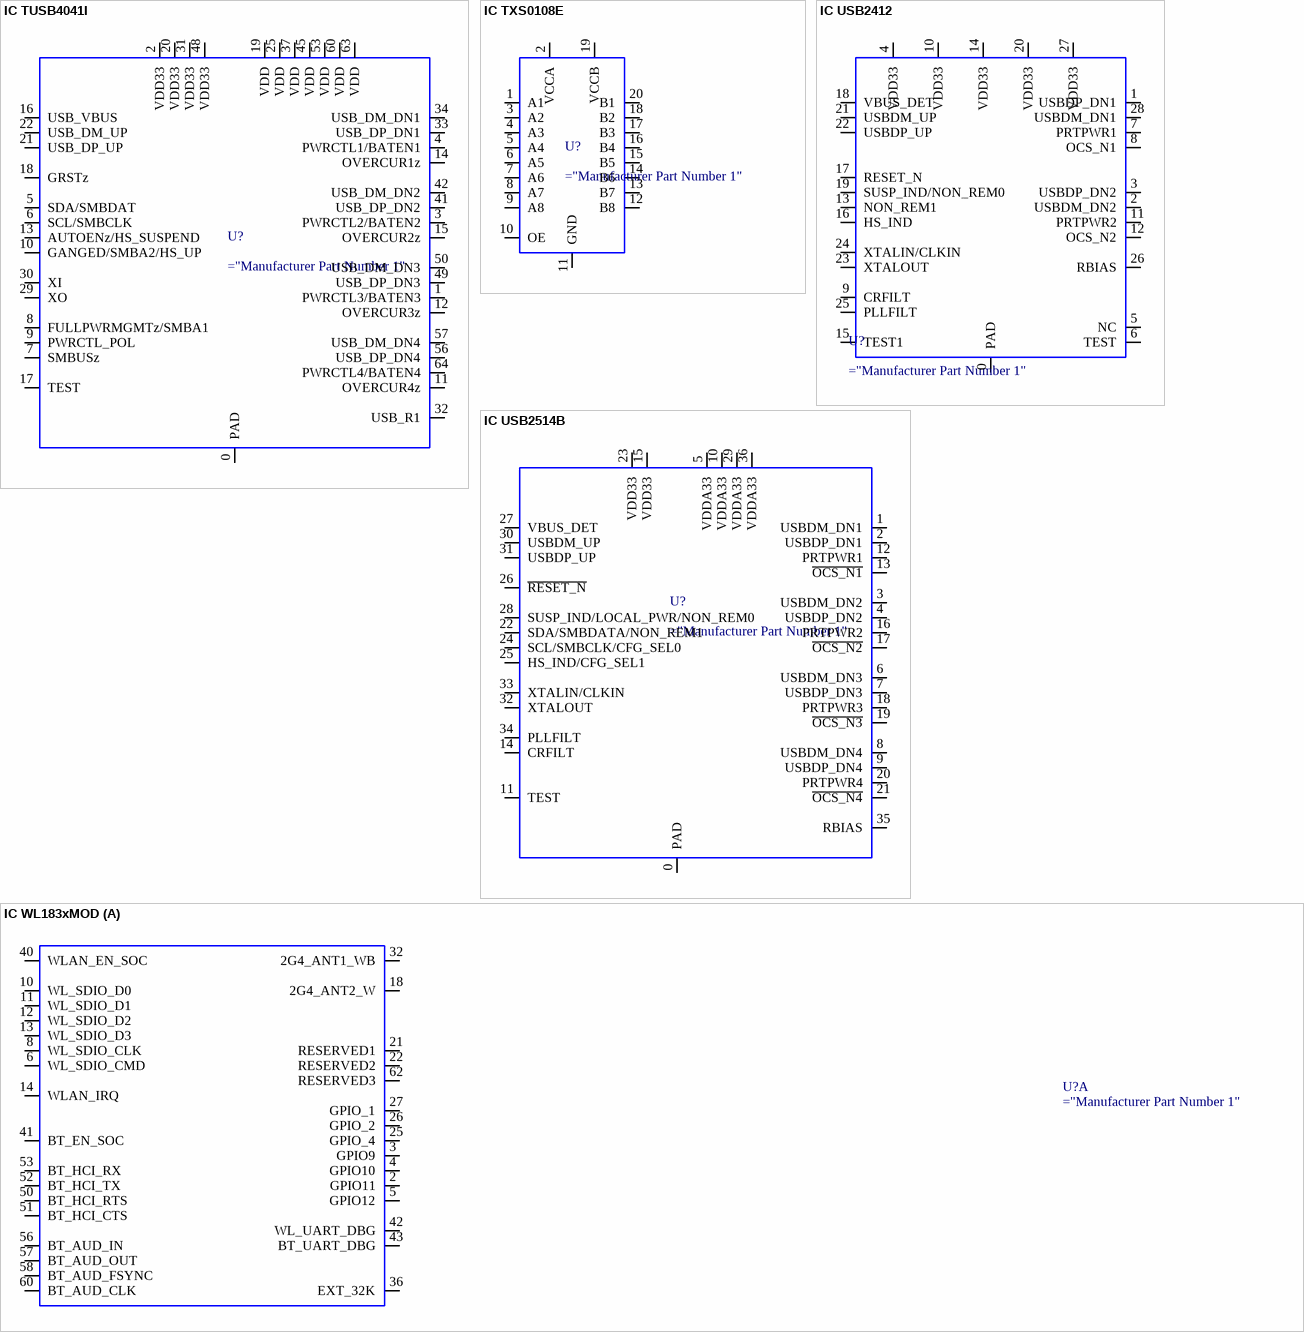
[diagram p23: symbols IC TUSB4041I to IC WL183xMOD]

## IC TUSB4041I
designator U?
4-port USB Hub Controller, TI TUSB4041I
pins: 0 PAD, 1 PWRCTL3/BATEN3, 2 VDD33, 3 PWRCTL2/BATEN2, 4 PWRCTL1/BATEN1, 5 SDA/SMBDAT, 6 SCL/SMBCLK, 7 SMBUSz, 8 FULLPWRMGMTz/SMBA1, 9 PWRCTL_POL, 10 GANGED/SMBA2/HS_UP, 11 OVERCUR4z, 12 OVERCUR3z, 13 AUTOENz/HS_SUSPEND, 14 OVERCUR1z, 15 OVERCUR2z, 16 USB_VBUS, 17 TEST, 18 GRSTz, 19 VDD, 20 VDD33, 21 USB_DP_UP, 22 USB_DM_UP, 23 RSVD hidden, 24 RSVD hidden, 25 VDD, 26 RSVD hidden, 27 RSVD hidden, 28 NC hidden, 29 XO, 30 XI, 31 VDD33, 32 USB_R1, 33 USB_DP_DN1, 34 USB_DM_DN1, 35 RSVD hidden, 36 RSVD hidden, 37 VDD, 38 RSVD hidden, 39 RSVD hidden, 40 NC hidden, 41 USB_DP_DN2, 42 USB_DM_DN2, 43 RSVD hidden, 44 RSVD hidden, 45 VDD, 46 RSVD hidden, 47 RSVD hidden, 48 VDD33, 49 USB_DP_DN3, 50 USB_DM_DN3, 51 RSVD hidden, 52 RSVD hidden, 53 VDD, 54 RSVD hidden, 55 RSVD hidden, 56 USB_DP_DN4, 57 USB_DM_DN4, 58 RSVD hidden, 59 RSVD hidden, 60 VDD, 61 RSVD hidden, 62 RSVD hidden, 63 VDD, 64 PWRCTL4/BATEN4

## IC TXS0108E
designator U?
Bidirectional Voltage-Level Translator, TI TX0108E
pins: 1 A1, 2 VCCA, 3 A2, 4 A3, 5 A4, 6 A5, 7 A6, 8 A7, 9 A8, 10 OE, 11 GND, 12 B8, 13 B7, 14 B6, 15 B5, 16 B4, 17 B3, 18 B2, 19 VCCB, 20 B1

## IC USB2412
designator U?
2-port USB Hub Controller, SMSC USB2412
pins: 0 PAD, 1 USBDP_DN1, 2 USBDM_DN2, 3 USBDP_DN2, 4 VDD33, 5 NC, 6 TEST, 7 PRTPWR1, 8 OCS_N1, 9 CRFILT, 10 VDD33, 11 PRTPWR2, 12 OCS_N2, 13 NON_REM1, 14 VDD33, 15 TEST1, 16 HS_IND, 17 RESET_N, 18 VBUS_DET, 19 SUSP_IND/NON_REM0, 20 VDD33, 21 USBDM_UP, 22 USBDP_UP, 23 XTALOUT, 24 XTALIN/CLKIN, 25 PLLFILT, 26 RBIAS, 27 VDD33, 28 USBDM_DN1

## IC USB2514B
designator U?
4-port USB Hub Controller, Microchip USB2514B
pins: 0 PAD, 1 USBDM_DN1, 2 USBDP_DN1, 3 USBDM_DN2, 4 USBDP_DN2, 5 VDDA33, 6 USBDM_DN3, 7 USBDP_DN3, 8 USBDM_DN4, 9 USBDP_DN4, 10 VDDA33, 11 TEST, 12 PRTPWR1, 13 ~{OCS_N1}, 14 CRFILT, 15 VDD33, 16 PRTPWR2, 17 ~{OCS_N2}, 18 PRTPWR3, 19 ~{OCS_N3}, 20 PRTPWR4, 21 ~{OCS_N4}, 22 SDA/SMBDATA/NON_REM1, 23 VDD33, 24 SCL/SMBCLK/CFG_SEL0, 25 HS_IND/CFG_SEL1, 26 ~{RESET_N}, 27 VBUS_DET, 28 SUSP_IND/LOCAL_PWR/NON_REM0, 29 VDDA33, 30 USBDM_UP, 31 USBDP_UP, 32 XTALOUT, 33 XTALIN/CLKIN, 34 PLLFILT, 35 RBIAS, 36 VDDA33

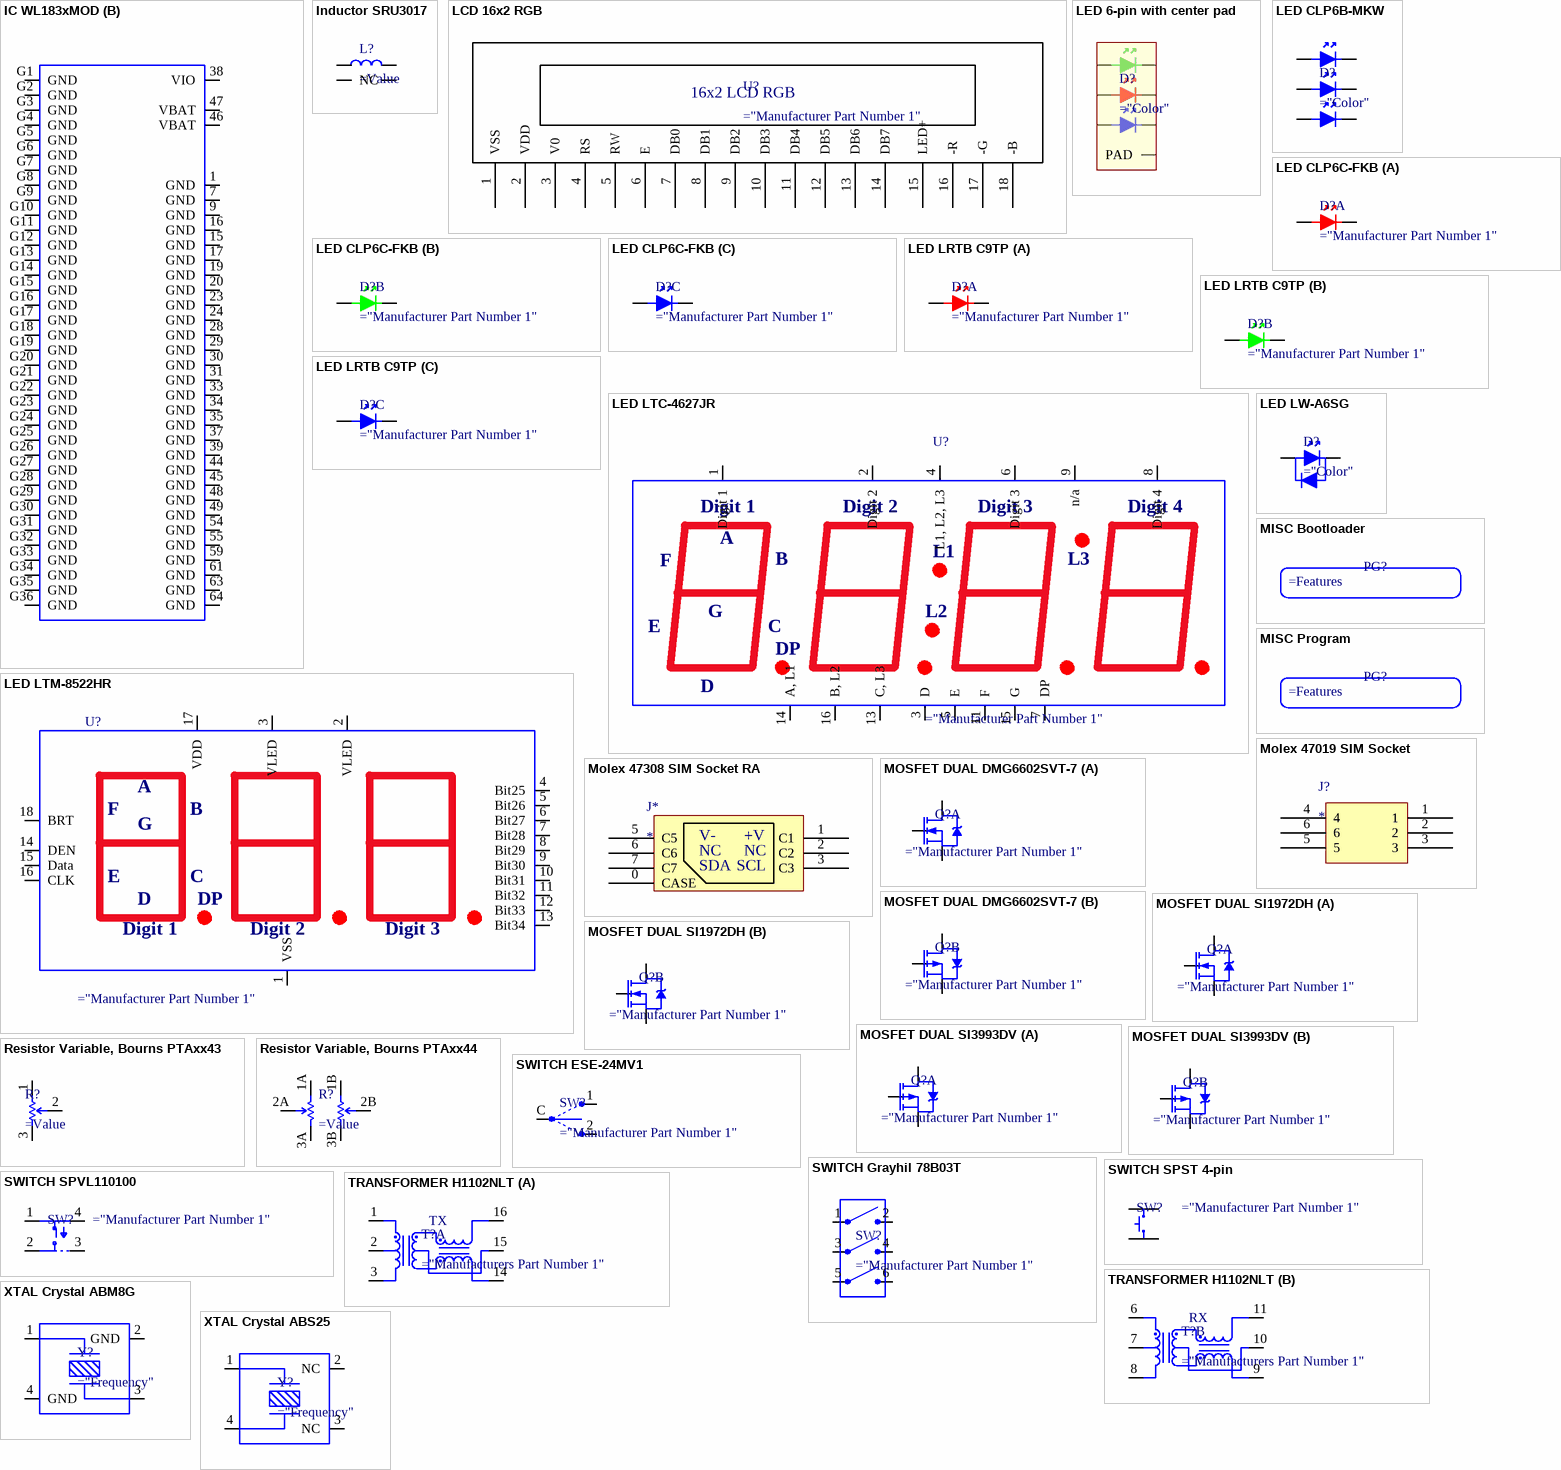
[diagram p24: symbols IC WL183xMOD to XTAL Crystal ABS25]

## IC WL183xMOD
designator U?
TI WiLink8 WL183x MOD
part A pins: 2 GPIO11, 3 GPIO9, 4 GPIO10, 5 GPIO12, 6 WL_SDIO_CMD, 8 WL_SDIO_CLK, 10 WL_SDIO_D0, 11 WL_SDIO_D1, 12 WL_SDIO_D2, 13 WL_SDIO_D3, 14 WLAN_IRQ, 18 2G4_ANT2_W, 21 RESERVED1, 22 RESERVED2, 25 GPIO_4, 26 GPIO_2, 27 GPIO_1, 32 2G4_ANT1_WB, 36 EXT_32K, 40 WLAN_EN_SOC, 41 BT_EN_SOC, 42 WL_UART_DBG, 43 BT_UART_DBG, 50 BT_HCI_RTS, 51 BT_HCI_CTS, 52 BT_HCI_TX, 53 BT_HCI_RX, 56 BT_AUD_IN, 57 BT_AUD_OUT, 58 BT_AUD_FSYNC, 60 BT_AUD_CLK, 62 RESERVED3
part B pins: 1 GND (power), 7 GND (power), 9 GND (power), 15 GND (power), 16 GND (power), 17 GND (power), 19 GND (power), 20 GND (power), 23 GND (power), 24 GND (power), 28 GND (power), 29 GND (power), 30 GND (power), 31 GND (power), 33 GND (power), 34 GND (power), 35 GND (power), 37 GND (power), 38 VIO (power), 39 GND (power), 44 GND (power), 45 GND (power), 46 VBAT (power), 47 VBAT (power), 48 GND (power), 49 GND (power), 54 GND (power), 55 GND (power), 59 GND (power), 61 GND (power), 63 GND (power), 64 GND (power), G1 GND (power), G2 GND (power), G3 GND (power), G4 GND (power), G5 GND (power), G6 GND (power), G7 GND (power), G8 GND (power), G9 GND (power), G10 GND (power), G11 GND (power), G12 GND (power), G13 GND (power), G14 GND (power), G15 GND (power), G16 GND (power), G17 GND (power), G18 GND (power), G19 GND (power), G20 GND (power), G21 GND (power), G22 GND (power), G23 GND (power), G24 GND (power), G25 GND (power), G26 GND (power), G27 GND (power), G28 GND (power), G29 GND (power), G30 GND (power), G31 GND (power), G32 GND (power), G33 GND (power), G34 GND (power), G35 GND (power), G36 GND (power)

## Inductor SRU3017
designator L?
Bourns SRU3017 Series Inductors
pins: 0 NC, 0 NC, 1, 2

## LCD 16x2 RGB
designator U?
16x2 RGB Character LCD
pins: 1 VSS, 2 VDD, 3 V0, 4 RS, 5 RW, 6 E, 7 DB0, 8 DB1, 9 DB2, 10 DB3, 11 DB4, 12 DB5, 13 DB6, 14 DB7, 15 LED+, 16 -R, 17 -G, 18 -B
text: 16x2 LCD RGB

## LED 6-pin with center pad
designator D?
RGB LED array PN: AAAF5051-04 PN: SML-LX5050SIUPGUBC
pins: 1 BC, 2 RC, 3 GC, 4 A, 5 A, 6 A, 7 PAD

## LED CLP6B-MKW
designator D?
3-in-1 LED-MKW Array, Cree CLP6B-MKW Series
pins: 1 A1, 2 A2, 3 A3, 4 K3, 5 K2, 6 K1

## LED CLP6C-FKB
designator D?
RGB LED Array, Cree CLP6C-FKB
part A pins: 1 A, 6 K
part B pins: 2 A, 5 K
part C pins: 3 A, 4 K

## LED LRTB C9TP
designator D?
RGB LED Array, Osram LRTB C9TP Series
part A pins: 1 K, 6 A
part B pins: 2 K, 5 A
part C pins: 3 K, 4 A

## LED LTC-4627JR
designator U?
4-Digit 7-segment display, Lite-On LTC-4627JR
pins: 1 Digit 1, 2 Digit 2, 3 D, 4 L1, L2, L3, 5 E, 6 Digit 3, 7 DP, 8 Digit 4, 9 n/a, 11 F, 13 C, L3, 14 A, L1, 15 G, 16 B, L2
text: A; L1; B; L3; L2; C

## LED LTM-8522HR
designator U?
3-Digit 7-segment display, Serial Input, Lite-On LTM-8522HR
pins: 1 VSS, 2 VLED, 3 VLED, 4 Bit25, 5 Bit26, 6 Bit27, 7 Bit28, 8 Bit29, 9 Bit30, 10 Bit31, 11 Bit32, 12 Bit33, 13 Bit34, 14 DEN, 15 Data, 16 CLK, 17 VDD, 18 BRT
text: A; F; B; G; E; C; D; DP; Digit 1; Digit 2; Digit 3

## LED LW-A6SG
designator D?
LED with ESD Diode, Osram LW-A6SG
pins: 1 A, 2 K

## MISC Bootloader
designator PG?, comment Bootloader file for programmable IC  (value not drawn)  (no BOM)

## MISC Program
designator PG?, comment Program file for IC  (value not drawn)  (no BOM)

## Molex 47019 SIM Socket
designator J?
Connector SIM CARD PUSH-PULL SMD
pins: 1, 2, 3, 4, 5, 6

## Molex 47308 SIM Socket RA
designator J*
Molex 47308 3FF SIM Socket RA SMT
pins: 0 CASE, 1 C1, 2 C2, 3 C3, 5 C5, 6 C6, 7 C7
text: V-; +V; NC; SDA; SCL

## MOSFET DUAL DMG6602SVT-7
designator Q?
Dual P-Channel/N-Channel MOSFET, Diodes Inc DMG6602SVT-7
part A pins: 1 G1, 5 S1, 6 D1
part B pins: 2 S2, 3 G2, 4 D2

## MOSFET DUAL SI1972DH
designator Q?
Dual N-Channel MOSFET, Vishay SI1972DH
part A pins: 1 S1, 2 G1, 6 D1
part B pins: 3 D2, 4 S2, 5 G2

## MOSFET DUAL SI3993DV
designator Q?
Dual P-Channel MOSFET, Vishay SI3993DV-T1-E3
part A pins: 1 G1, 5 S1, 6 D1
part B pins: 2 S2, 3 G2, 4 D2

## Resistor Variable, Bourns PTAxx43
designator R?
Variable Resistor, Bourns PTAxx43 Series
pins: 0 M hidden, 1, 2, 3

## Resistor Variable, Bourns PTAxx44
designator R?
Dual Variable Resistor, Bourns PTAxx44 Series
pins: 0 M hidden, 1A, 1B, 2A, 2B, 3A, 3B

## SWITCH ESE-24MV1
designator SW?
Bi-directional SPDT NO/NO, Panasonic ESE-24MV1
pins: 1 NO, 2 NO, C COM

## SWITCH Grayhil 78B03T
designator SW?
Triple SPST DIP Switch, Grayhill 78B03T
pins: 1, 2, 3, 4, 5, 6

## SWITCH SPST 4-pin
designator SW?
Momentary NO SPST Switch
pins: 1, 2, 3, 4

## SWITCH SPVL110100
designator SW?
Tri-directional Switch, ALPS SPVL110100
pins: 1, 2, 3, 4

## TRANSFORMER H1102NLT
designator T?
Pulse Magnetics 10/100Base-T RX/TX Transformer
part A pins: 1, 2, 3, 4 hidden, 13 hidden, 14, 15, 16
part B pins: 5 hidden, 6, 7, 8, 9, 10, 11, 12 hidden
part A text: TX
part B text: RX

## XTAL Crystal ABM8G
designator Y?
Crystal in 4pin SMT Package, Abracon ABM8G Series
pins: 1, 2 GND, 3, 4 GND

## XTAL Crystal ABS25
designator Y?
Crystal in 4pin SMT Package, Abracon ABS25 Series
pins: 1, 2 NC, 3 NC, 4 2

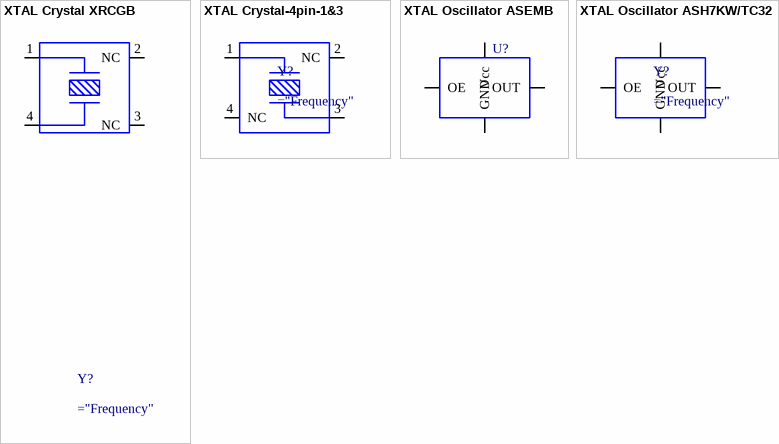
[diagram p25: symbols XTAL Crystal XRCGB to XTAL Oscillator ASH7KW/TC32]

## XTAL Crystal XRCGB
designator Y?
Crystal in 4pin SMT Package, Murata XRCGB Series
pins: 1, 2 NC, 3 NC, 4 NC

## XTAL Crystal-4pin-1&3
designator Y?
Crystal in 4pin SMT Package, Pins 1, 3 connected
pins: 1, 2 NC, 3, 4 NC

## XTAL Oscillator ASEMB
designator U?
Oscillator with enable output, Abracon ASEMB
pins: 1 OE, 2 GND, 3 OUT, 4 Vcc

## XTAL Oscillator ASH7KW/TC32
designator Y?
Oscillator with output enable, Abracon ASH7KW / CTS TC32
pins: 1 OUT, 2 GND, 3 OE, 4 Vcc